# Altium footprint library BC557_mod.PcbLib: 1 footprints
Each footprint in its own frame and in the unit in brackets; x right, y up, seen from the top. Pads: shape width x height; smd on the part's side, far side on the other; paste and mask are expansions set on the pad; w line width, h text height; cw(c..) or ccw(c..) is an arc to the next point about the centre after c.
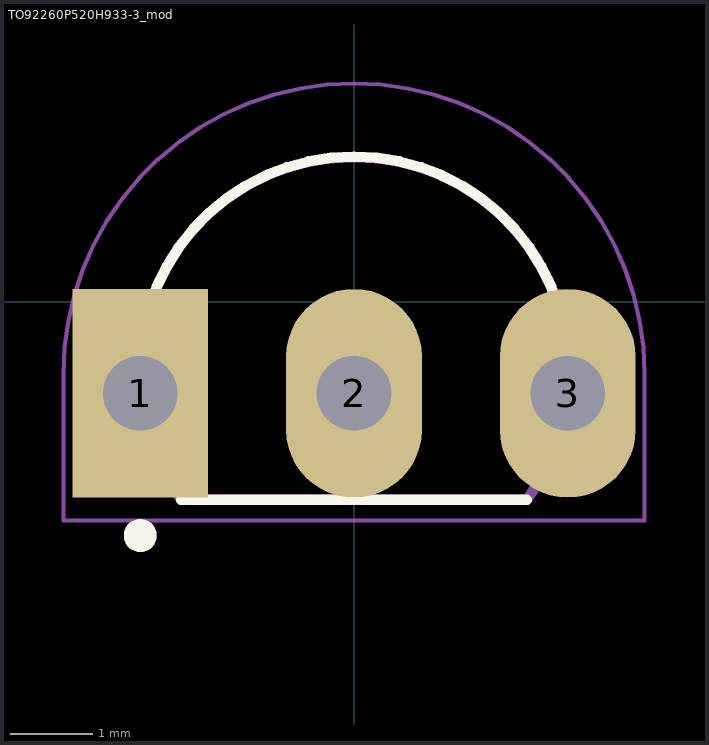
[diagram p0: the footprint, top view; thin cyan lines are the x and y axes]

## TO92260P520H933-3_mod [mm]
pads (3):
  rect 1.651x2.54 hole 0.91: 1(-2.6,-1.112)
  oval 1.651x2.54 hole 0.91: 2(0,-1.112) 3(2.6,-1.112)
Top Overlay:
  circle w0.2: c-2.6,-2.843 r0.1
  lines w0.127: -2.493,-0.078 cw(c0,-0.841) 2.493,-0.078 ; -2.102,-2.408 2.102,-2.408
Mechanical 13:
  circle w0.2: c-2.6,-2.843 r0.1
  lines w0.127: -2.115,-2.39 cw(c0,-0.853) 2.115,-2.39 ; -2.102,-2.408 2.102,-2.408
Mechanical 15:
  lines w0.05: -3.535,-2.66 3.535,-2.66 3.535,-0.878 ccw(c0,-0.878) -3.535,-0.878 -3.535,-2.66